# Altium footprint library Conn_Switchcraft_RAPC722X_eec_0.PcbLib: 1 footprints
Each footprint in its own frame and in the unit in brackets; x right, y up, seen from the top. Pads: shape width x height; smd on the part's side, far side on the other; paste and mask are expansions set on the pad; w line width, h text height; cw(c..) or ccw(c..) is an arc to the next point about the centre after c.
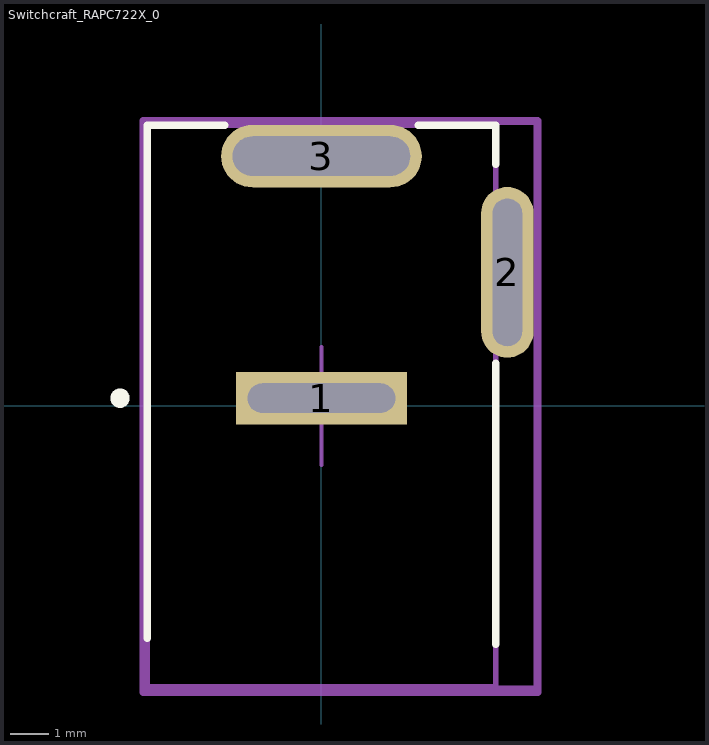
[diagram p0: the footprint, top view; thin cyan lines are the x and y axes]

## Switchcraft_RAPC722X_0 [mm]
pads (3):
  rect 4.41x1.36 hole 0.76 slot 3.81 at 0 deg paste-1000 mask+0: 1(0,0.2)
  oval 1.36x4.41 hole 3.81 slot 0.76 at 0 deg paste-1000 mask+0: 2(4.8,3.45)
  oval 5.18x1.62 hole 1.02 slot 4.58 at 0 deg paste-1000 mask+0: 3(0,6.45)
Top Overlay:
  circle w0.25: c-5.2,0.2 r0.125
  lines w0.2: -4.5,-6 -4.5,7.25 -2.5,7.25 ; 2.5,7.25 4.5,7.25 4.5,6.25 ; 4.5,-6.15 4.5,1.1
Mechanical 10:
  lines w0.2: -4.6,-7.39 -4.6,7.36 5.58,7.36 5.58,-7.39 -4.6,-7.39
  text ".Designator" at 0.49,-0.015 h1
Mechanical 12:
  lines w0.15: -4.59,-7.29 5.59,-7.29 ; -4.5,-7.25 -4.5,7.25 4.5,7.25 4.5,-7.25 -4.5,-7.25
Mechanical 15:
  lines w0.1: -1.527,0 1.527,0 ; 0,-1.527 0,1.527
  lines w0.2: -4.6,-7.39 -4.6,7.36 5.58,7.36 5.58,-7.39 -4.6,-7.39
3D body "3dmodel.step": height 11.85, standoff -2.05, extent -4.627,-6.794 4.878,7.706